# Altium schematic symbol library MainNewLib.SchLib: 99 symbols
Pins are listed as number, name and electrical type; pins without a type are passive.

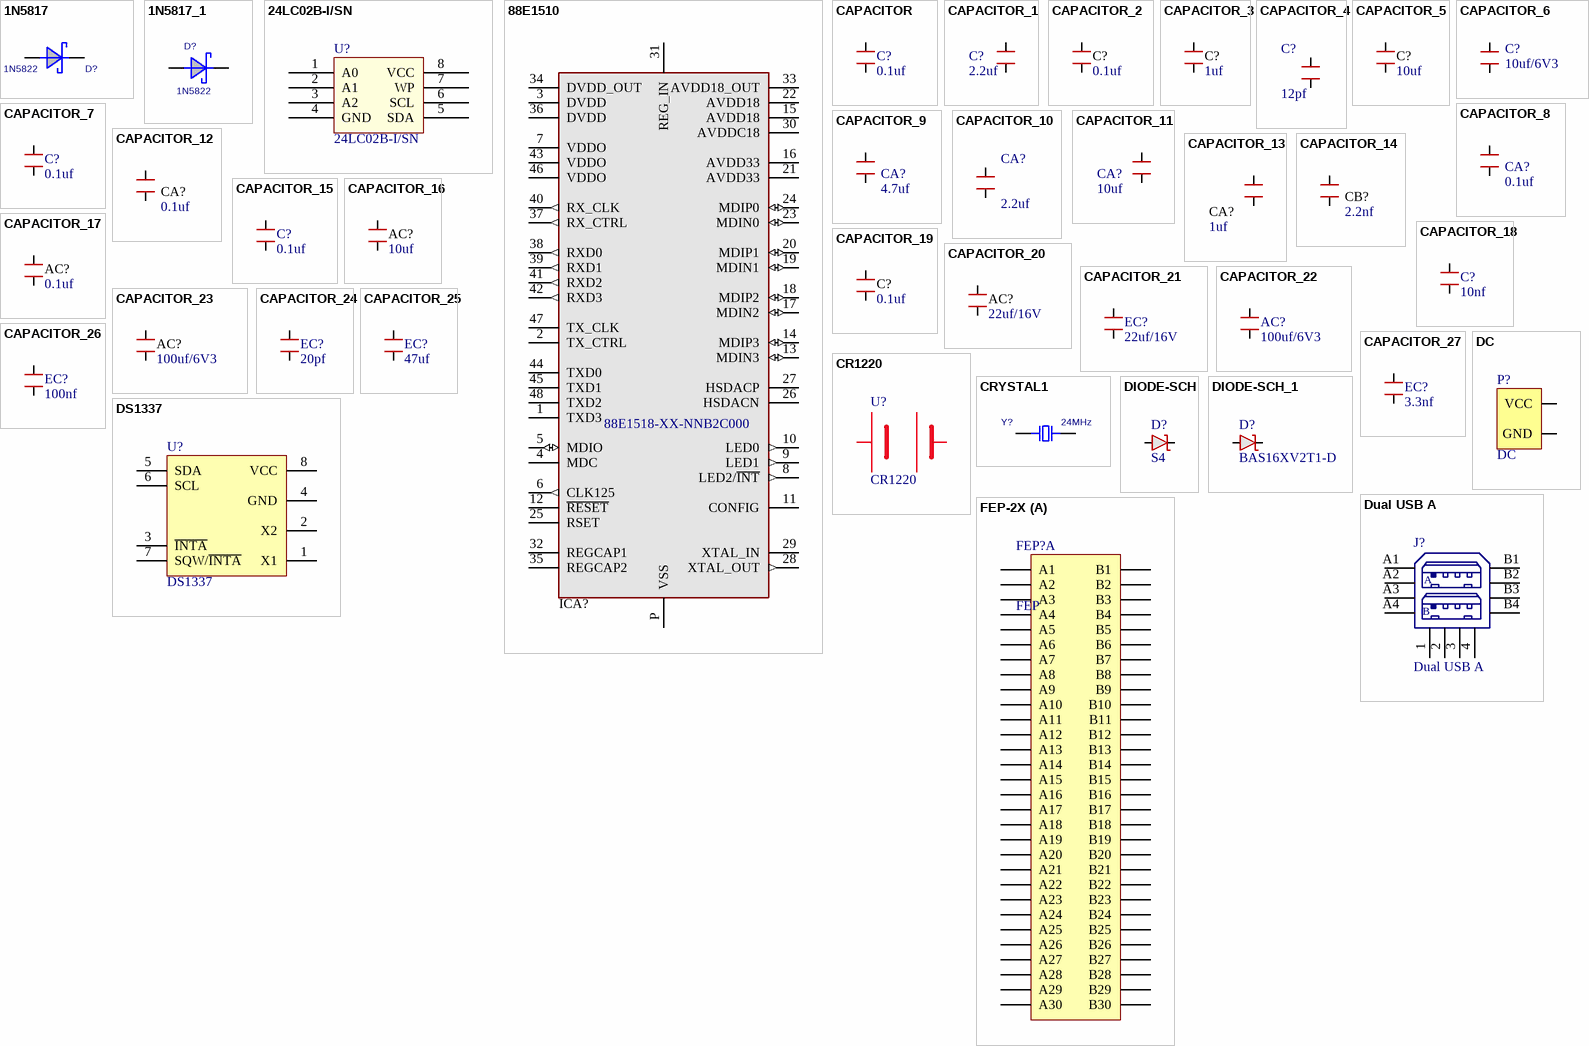
[diagram p0: symbols 1N5817 to FEP-2X]

## 1N5817
designator D?, comment 1N5822
footprint SMA_DO_214AC
footprint SMA_DO_214AC
pins: 1 A, 2 C

## 1N5817_1
designator D?, comment 1N5822
footprint SMA_DO_214AC
footprint SMA_DO_214AC
pins: 1 A, 2 C

## 24LC02B-I/SN
designator U?
footprint SOP8
pins: 1 A0, 2 A1, 3 A2, 4 GND, 5 SDA, 6 SCL, 7 WP, 8 VCC

## 88E1510
designator ICA?, comment 88E1518-XX-NNB2C000
High Integrated 10/100/1000 Ultra Gigabit Ethernet Tranceiver; Manufacturer: Marvell; DPN: *
footprint QFN48
pins: 1 TXD3, 2 TX_CTRL, 3 DVDD (power), 4 MDC, 5 MDIO (io), 6 CLK125 (out), 7 VDDO (power), 8 LED2/~{INT} (out), 9 LED1 (out), 10 LED0 (out), 11 CONFIG, 12 ~{RESET}, 13 MDIN3 (io), 14 MDIP3 (io), 15 AVDD18 (power), 16 AVDD33 (power), 17 MDIN2 (io), 18 MDIP2 (io), 19 MDIN1 (io), 20 MDIP1 (io), 21 AVDD33 (power), 22 AVDD18 (power), 23 MDIN0 (io), 24 MDIP0 (io), 25 RSET, 26 HSDACN, 27 HSDACP, 28 XTAL_OUT (out), 29 XTAL_IN, 30 AVDDC18 (power), 31 REG_IN (power), 32 REGCAP1, 33 AVDD18_OUT (power), 34 DVDD_OUT (power), 35 REGCAP2 (power), 36 DVDD (power), 37 RX_CTRL (out), 38 RXD0 (out), 39 RXD1 (out), 40 RX_CLK (out), 41 RXD2 (out), 42 RXD3 (out), 43 VDDO (power), 44 TXD0, 45 TXD1, 46 VDDO (power), 47 TX_CLK, 48 TXD2, P VSS (power)

## CAPACITOR
designator C?, comment 0.1uf
Generic Capacitor; DPN: *; Manufacturer: *
footprint CAP0402
footprint CAP0603 (Chip Capacitor, 2-Leads, Body 1.6x0.8mm, IPC High Density)
footprint CAP0805 (Chip Capacitor, 2-Leads, Body 2.0x1.3mm, IPC High Density)
footprint CAP1210 (Chip Capacitor, 2-Leads, Body 3.2x2.5mm, IPC High Density)
pins: 1, 2

## CAPACITOR_1
designator C?, comment 2.2uf
Generic Capacitor; DPN: *; Manufacturer: *
footprint CAP0402
footprint CAP0603 (Chip Capacitor, 2-Leads, Body 1.6x0.8mm, IPC High Density)
footprint CAP0805 (Chip Capacitor, 2-Leads, Body 2.0x1.3mm, IPC High Density)
footprint CAP1210 (Chip Capacitor, 2-Leads, Body 3.2x2.5mm, IPC High Density)
pins: 1, 2

## CAPACITOR_2
designator C?, comment 0.1uf
Generic Capacitor; Value: 10nF; DPN: *; Manufacturer: *
footprint CAP0402 (Chip Capacitor, 2-Leads, Body 1.0x0.5mm, IPC High Density)
footprint CAP0603 (Chip Capacitor, 2-Leads, Body 1.6x0.8mm, IPC High Density)
footprint CAP0805 (Chip Capacitor, 2-Leads, Body 2.0x1.3mm, IPC High Density)
footprint CAP1210 (Chip Capacitor, 2-Leads, Body 3.2x2.5mm, IPC High Density)
pins: 1, 2

## CAPACITOR_3
designator C?, comment 1uf
Generic Capacitor; Value: 10nF; DPN: *; Manufacturer: *
footprint CAP0402 (Chip Capacitor, 2-Leads, Body 1.0x0.5mm, IPC High Density)
footprint CAP0603 (Chip Capacitor, 2-Leads, Body 1.6x0.8mm, IPC High Density)
footprint CAP0805 (Chip Capacitor, 2-Leads, Body 2.0x1.3mm, IPC High Density)
footprint CAP1210 (Chip Capacitor, 2-Leads, Body 3.2x2.5mm, IPC High Density)
pins: 1, 2

## CAPACITOR_4
designator C?, comment 12pf
Generic Capacitor; Value: 39pF; DPN: *; Manufacturer: *
footprint CAP0402 (Chip Capacitor, 2-Leads, Body 1.0x0.5mm, IPC High Density)
footprint CAP0603 (Chip Capacitor, 2-Leads, Body 1.6x0.8mm, IPC High Density)
footprint CAP0805 (Chip Capacitor, 2-Leads, Body 2.0x1.3mm, IPC High Density)
footprint CAP1210 (Chip Capacitor, 2-Leads, Body 3.2x2.5mm, IPC High Density)
pins: 1, 2

## CAPACITOR_5
designator C?, comment 10uf
Generic Capacitor; Value: 10nF; DPN: *; Manufacturer: *
footprint CAP0603
pins: 1, 2

## CAPACITOR_6
designator C?, comment 10uf/6V3
Generic Capacitor; Value: 4.7uF; DPN: *; Manufacturer: *
footprint CAP0402 (Chip Capacitor, 2-Leads, Body 1.0x0.5mm, IPC High Density)
footprint CAP0603
footprint CAP0805 (Chip Capacitor, 2-Leads, Body 2.0x1.3mm, IPC High Density)
footprint CAP1210 (Chip Capacitor, 2-Leads, Body 3.2x2.5mm, IPC High Density)
pins: 1, 2

## CAPACITOR_7
designator C?, comment 0.1uf
Generic Capacitor; DPN: *; Manufacturer: *
footprint CAP0402
footprint CAP0603 (Chip Capacitor, 2-Leads, Body 1.6x0.8mm, IPC High Density)
footprint CAP0805 (Chip Capacitor, 2-Leads, Body 2.0x1.3mm, IPC High Density)
footprint CAP1210 (Chip Capacitor, 2-Leads, Body 3.2x2.5mm, IPC High Density)
pins: 1, 2

## CAPACITOR_8
designator CA?, comment 0.1uf
Generic Capacitor; DPN: *; Manufacturer: *; Value: 0.1uF
footprint CAP0402
footprint CAP0603 (Chip Capacitor, 2-Leads, Body 1.6x0.8mm, IPC High Density)
footprint CAP0805 (Chip Capacitor, 2-Leads, Body 2.0x1.3mm, IPC High Density)
footprint CAP1210 (Chip Capacitor, 2-Leads, Body 3.2x2.5mm, IPC High Density)
pins: 1, 2

## CAPACITOR_9
designator CA?, comment 4.7uf
Generic Capacitor; DPN: *; Manufacturer: *; Value: 4.7uF
footprint CAP0402
footprint CAP0603
footprint CAP0805 (Chip Capacitor, 2-Leads, Body 2.0x1.3mm, IPC High Density)
footprint CAP1210 (Chip Capacitor, 2-Leads, Body 3.2x2.5mm, IPC High Density)
pins: 1, 2

## CAPACITOR_10
designator CA?, comment 2.2uf
Generic Capacitor; Value: 4.7uF; DPN: *; Manufacturer: *
footprint CAP0402 (Chip Capacitor, 2-Leads, Body 1.0x0.5mm, IPC High Density)
footprint CAP0402
footprint CAP0805 (Chip Capacitor, 2-Leads, Body 2.0x1.3mm, IPC High Density)
footprint CAP1210 (Chip Capacitor, 2-Leads, Body 3.2x2.5mm, IPC High Density)
pins: 1, 2

## CAPACITOR_11
designator CA?, comment 10uf
Generic Capacitor; DPN: *; Manufacturer: *; Value: 10uF
footprint CAP0402 (Chip Capacitor, 2-Leads, Body 1.0x0.5mm, IPC High Density)
footprint CAP0603 (Chip Capacitor, 2-Leads, Body 1.6x0.8mm, IPC High Density)
footprint CAP0402
footprint CAP1210 (Chip Capacitor, 2-Leads, Body 3.2x2.5mm, IPC High Density)
pins: 1, 2

## CAPACITOR_12
designator CA?, comment 0.1uf
Generic Capacitor; Value: 10nF; DPN: *; Manufacturer: *
footprint CAP0402
footprint CAP0603 (Chip Capacitor, 2-Leads, Body 1.6x0.8mm, IPC High Density)
footprint CAP0805 (Chip Capacitor, 2-Leads, Body 2.0x1.3mm, IPC High Density)
footprint CAP1210 (Chip Capacitor, 2-Leads, Body 3.2x2.5mm, IPC High Density)
pins: 1, 2

## CAPACITOR_13
designator CA?, comment 1uf
Generic Capacitor; Value: 10nF; DPN: *; Manufacturer: *
footprint CAP0402
footprint CAP0603 (Chip Capacitor, 2-Leads, Body 1.6x0.8mm, IPC High Density)
footprint CAP0805 (Chip Capacitor, 2-Leads, Body 2.0x1.3mm, IPC High Density)
footprint CAP1210 (Chip Capacitor, 2-Leads, Body 3.2x2.5mm, IPC High Density)
pins: 1, 2

## CAPACITOR_14
designator CB?, comment 2.2nf
Generic Capacitor; Value: 10nF; DPN: *; Manufacturer: *
footprint CAP0402
footprint CAP0603 (Chip Capacitor, 2-Leads, Body 1.6x0.8mm, IPC High Density)
footprint CAP0805 (Chip Capacitor, 2-Leads, Body 2.0x1.3mm, IPC High Density)
footprint CAP1210 (Chip Capacitor, 2-Leads, Body 3.2x2.5mm, IPC High Density)
pins: 1, 2

## CAPACITOR_15
designator C?, comment 0.1uf
Generic Capacitor; DPN: *; Manufacturer: *
footprint CAP0402
footprint CAP0603 (Chip Capacitor, 2-Leads, Body 1.6x0.8mm, IPC High Density)
footprint CAP0805 (Chip Capacitor, 2-Leads, Body 2.0x1.3mm, IPC High Density)
footprint CAP1210 (Chip Capacitor, 2-Leads, Body 3.2x2.5mm, IPC High Density)
pins: 1, 2

## CAPACITOR_16
designator AC?, comment 10uf
Generic Capacitor; Value: 10nF; DPN: *; Manufacturer: *
footprint 0402C
footprint CAP0603
footprint CAP0805 (Chip Capacitor, 2-Leads, Body 2.0x1.3mm, IPC High Density)
footprint CAP1210 (Chip Capacitor, 2-Leads, Body 3.2x2.5mm, IPC High Density)
pins: 1, 2

## CAPACITOR_17
designator AC?, comment 0.1uf
Generic Capacitor; Value: 10nF; DPN: *; Manufacturer: *
footprint CAP0402
footprint CAP0603 (Chip Capacitor, 2-Leads, Body 1.6x0.8mm, IPC High Density)
footprint CAP0805 (Chip Capacitor, 2-Leads, Body 2.0x1.3mm, IPC High Density)
footprint CAP1210 (Chip Capacitor, 2-Leads, Body 3.2x2.5mm, IPC High Density)
pins: 1, 2

## CAPACITOR_18
designator C?, comment 10nf
Generic Capacitor; Value: 0.1uF; DPN: *; Manufacturer: *
footprint CAP0402
footprint CAP0603 (Chip Capacitor, 2-Leads, Body 1.6x0.8mm, IPC High Density)
footprint CAP0805 (Chip Capacitor, 2-Leads, Body 2.0x1.3mm, IPC High Density)
footprint CAP1210 (Chip Capacitor, 2-Leads, Body 3.2x2.5mm, IPC High Density)
pins: 1, 2

## CAPACITOR_19
designator C?, comment 0.1uf
Generic Capacitor; Value: 10nF; DPN: *; Manufacturer: *
footprint CAP0402
footprint CAP0603 (Chip Capacitor, 2-Leads, Body 1.6x0.8mm, IPC High Density)
footprint CAP0805 (Chip Capacitor, 2-Leads, Body 2.0x1.3mm, IPC High Density)
footprint CAP1210 (Chip Capacitor, 2-Leads, Body 3.2x2.5mm, IPC High Density)
pins: 1, 2

## CAPACITOR_20
designator AC?, comment 22uf/16V
Generic Capacitor; Value: 10nF; DPN: *; Manufacturer: *
footprint 0402C
footprint CAP1206
footprint CAP0805 (Chip Capacitor, 2-Leads, Body 2.0x1.3mm, IPC High Density)
footprint CAP1210 (Chip Capacitor, 2-Leads, Body 3.2x2.5mm, IPC High Density)
pins: 1, 2

## CAPACITOR_21
designator EC?, comment 22uf/16V
Generic Capacitor; DPN: *; Manufacturer: *
footprint CAP0402
footprint CAP1206 (Footprint not found)
footprint CAP0603
footprint CAP1210 (Chip Capacitor, 2-Leads, Body 3.2x2.5mm, IPC High Density)
pins: 1, 2

## CAPACITOR_22
designator AC?, comment 100uf/6V3
Generic Capacitor; DPN: *; Manufacturer: *
footprint CAP0402
footprint CAP1206 (Footprint not found)
footprint CAP1206 (Footprint not found)
footprint CAP1210 (Chip Capacitor, 2-Leads, Body 3.2x2.5mm, IPC High Density)
pins: 1, 2

## CAPACITOR_23
designator AC?, comment 100uf/6V3
Generic Capacitor; Value: 10nF; DPN: *; Manufacturer: *
footprint 0402C
footprint CAP1206 (Footprint not found)
footprint CAP0805 (Chip Capacitor, 2-Leads, Body 2.0x1.3mm, IPC High Density)
footprint CAP1210 (Chip Capacitor, 2-Leads, Body 3.2x2.5mm, IPC High Density)
pins: 1, 2

## CAPACITOR_24
designator EC?, comment 20pf
Generic Capacitor; DPN: *; Manufacturer: *
footprint CAP0402
footprint CAP0603 (Chip Capacitor, 2-Leads, Body 1.6x0.8mm, IPC High Density)
footprint CAP1206 (Footprint not found)
footprint CAP1210 (Chip Capacitor, 2-Leads, Body 3.2x2.5mm, IPC High Density)
pins: 1, 2

## CAPACITOR_25
designator EC?, comment 47uf
Generic Capacitor; DPN: *; Manufacturer: *
footprint CAP0402
footprint CAP0603
footprint CAP1206 (Footprint not found)
footprint CAP1210 (Chip Capacitor, 2-Leads, Body 3.2x2.5mm, IPC High Density)
pins: 1, 2

## CAPACITOR_26
designator EC?, comment 100nf
Generic Capacitor; DPN: *; Manufacturer: *
footprint CAP0402
footprint CAP0402
footprint CAP1206 (Footprint not found)
footprint CAP1210 (Chip Capacitor, 2-Leads, Body 3.2x2.5mm, IPC High Density)
pins: 1, 2

## CAPACITOR_27
designator EC?, comment 3.3nf
Generic Capacitor; DPN: *; Manufacturer: *
footprint CAP0402
footprint CAP0603 (Chip Capacitor, 2-Leads, Body 1.6x0.8mm, IPC High Density)
footprint CAP1206 (Footprint not found)
footprint CAP1210 (Chip Capacitor, 2-Leads, Body 3.2x2.5mm, IPC High Density)
pins: 1, 2

## CR1220
designator U?
footprint R190
pins: 1, 2

## CRYSTAL1
designator Y?, comment 24MHz
footprint CRY5032_2
pins: 1, 2

## DC
designator P?
footprint DC2.5
footprint DC5.0
footprint DC031A
pins: 1 VCC, 2 GND

## DIODE-SCH
designator D?, comment S4
Schotkey Diode NOT GENERIC; DPN: *; Manufacturer: *
footprint SOD-323
footprint SMC (SMC (DO-214AB), 2-Leads, Body 7.9x5.9mm, (Vishay))
footprint SMA (SMA, 2-leads, Body 5x3mm)
footprint SOD-523
pins: A, K

## DIODE-SCH_1
designator D?, comment BAS16XV2T1-D
Surface Mount ESD Protection Diode; Manufacturer: On Semiconductor; DPN: *
footprint SOD-323
footprint SMC (SMC (DO-214AB), 2-Leads, Body 7.9x5.9mm, (Vishay))
footprint SMA (SMA, 2-leads, Body 5x3mm)
footprint SOD-523
pins: A, K

## DS1337
designator U?
footprint SOP8
pins: 1 X1, 2 X2, 3 ~{INTA}, 4 GND, 5 SDA, 6 SCL, 7 SQW/~{INTA}, 8 VCC

## Dual USB A
designator J?
footprint USBAX2
pins: 1, 2, 3, 4, A1, A2, A3, A4, B1, B2, B3, B4
text: A; B

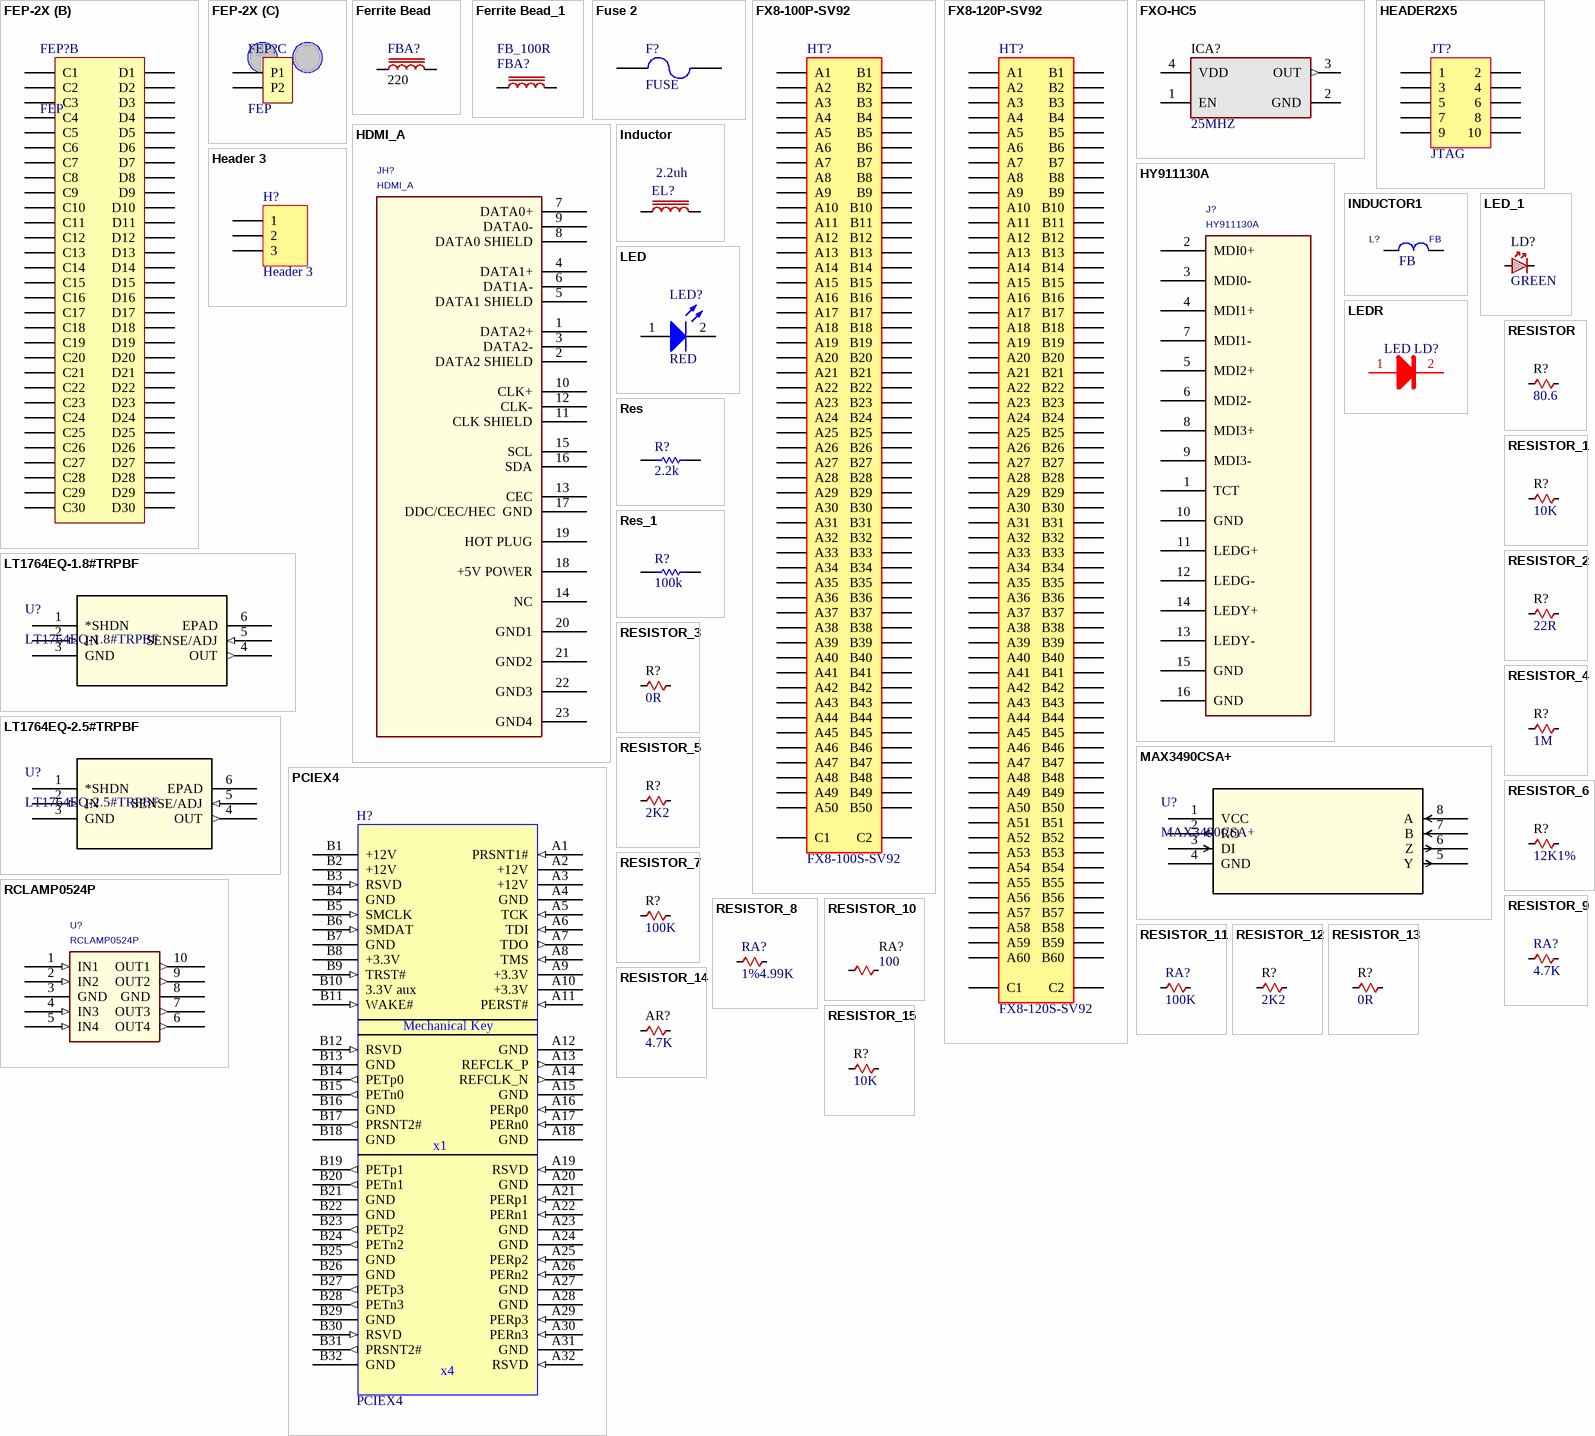
[diagram p1: symbols FEP-2X to RESISTOR_15]

## FEP-2X
designator FEP?, comment FEP
footprint FEP-X2
part A pins: A1, A2, A3, A4, A5, A6, A7, A8, A9, A10, A11, A12, A13, A14, A15, A16, A17, A18, A19, A20, A21, A22, A23, A24, A25, A26, A27, A28, A29, A30, B1, B2, B3, B4, B5, B6, B7, B8, B9, B10, B11, B12, B13, B14, B15, B16, B17, B18, B19, B20, B21, B22, B23, B24, B25, B26, B27, B28, B29, B30
part B pins: C1, C2, C3, C4, C5, C6, C7, C8, C9, C10, C11, C12, C13, C14, C15, C16, C17, C18, C19, C20, C21, C22, C23, C24, C25, C26, C27, C28, C29, C30, D1, D2, D3, D4, D5, D6, D7, D8, D9, D10, D11, D12, D13, D14, D15, D16, D17, D18, D19, D20, D21, D22, D23, D24, D25, D26, D27, D28, D29, D30
part C pins: P1, P2

## Ferrite Bead
designator FBA?, comment 220
Generic Ferrite Bead; DPN: *; Manufacturer: *; Value: 220
footprint CAP0603
footprint FB0402 (Ferrite Bead, 2-Leads, Body 1.0x0.5mm, IPC High Density)
pins: 1, 2

## Ferrite Bead_1
designator FBA?, comment FB_100R
Generic Ferrite Bead; Value: 600; DPN: *; Manufacturer: *
footprint CAP0603
pins: 1, 2

## Fuse 2
designator F?, comment FUSE
Published: 8-Jun-2000; LatestRevisionDate: 17-Jul-2002; LatestRevisionNote: Re-released for DXP Platform.; PackageReference: PIN-W2/E2.8; Publisher: Altium Limited
footprint 1206
simulation model FUSE (Spice Subcircuit)
pins: 1, 2

## FX8-100P-SV92
designator HT?, comment FX8-100S-SV92
footprint FX8-100S-SV92
pins: A1, A2, A3, A4, A5, A6, A7, A8, A9, A10, A11, A12, A13, A14, A15, A16, A17, A18, A19, A20, A21, A22, A23, A24, A25, A26, A27, A28, A29, A30, A31, A32, A33, A34, A35, A36, A37, A38, A39, A40, A41, A42, A43, A44, A45, A46, A47, A48, A49, A50, B1, B2, B3, B4, B5, B6, B7, B8, B9, B10, B11, B12, B13, B14, B15, B16, B17, B18, B19, B20, B21, B22, B23, B24, B25, B26, B27, B28, B29, B30, B31, B32, B33, B34, B35, B36, B37, B38, B39, B40, B41, B42, B43, B44, B45, B46, B47, B48, B49, B50, C1, C2

## FX8-120P-SV92
designator HT?, comment FX8-120S-SV92
footprint FX8-120S-SV92
pins: A1, A2, A3, A4, A5, A6, A7, A8, A9, A10, A11, A12, A13, A14, A15, A16, A17, A18, A19, A20, A21, A22, A23, A24, A25, A26, A27, A28, A29, A30, A31, A32, A33, A34, A35, A36, A37, A38, A39, A40, A41, A42, A43, A44, A45, A46, A47, A48, A49, A50, A51, A52, A53, A54, A55, A56, A57, A58, A59, A60, B1, B2, B3, B4, B5, B6, B7, B8, B9, B10, B11, B12, B13, B14, B15, B16, B17, B18, B19, B20, B21, B22, B23, B24, B25, B26, B27, B28, B29, B30, B31, B32, B33, B34, B35, B36, B37, B38, B39, B40, B41, B42, B43, B44, B45, B46, B47, B48, B49, B50, B51, B52, B53, B54, B55, B56, B57, B58, B59, B60, C1, C2

## FXO-HC5
designator ICA?, comment 25MHZ
3.3V HCMOS Oscillator; Manufacturer: Fox Electronics; Value: 33.33MHz; DPN: *
footprint 3225 (Footprint not found)
pins: 1 EN, 2 GND (power), 3 OUT (out), 4 VDD (power)

## HDMI_A
designator JH?
footprint HDMI_1903015
footprint HDMI_SMD_A
pins: 1 DATA2+, 2 DATA2 SHIELD, 3 DATA2-, 4 DATA1+, 5 DATA1 SHIELD, 6 DAT1A-, 7 DATA0+, 8 DATA0 SHIELD, 9 DATA0-, 10 CLK+, 11 CLK SHIELD, 12 CLK-, 13 CEC, 14 NC, 15 SCL, 16 SDA, 17 DDC/CEC/HEC  GND, 18 +5V POWER, 19 HOT PLUG, 20 GND1, 21 GND2, 22 GND3, 23 GND4

## HEADER2X5
designator JT?, comment JTAG
footprint HEADER2X5X2.5
footprint HEADER5X2X2.0T
footprint HEADER2X5-2.0
pins: 1, 2, 3, 4, 5, 6, 7, 8, 9, 10

## Header 3
designator H?
Header, 3-Pin; LatestRevisionDate: 17-Jul-2002; LatestRevisionNote: Re-released for DXP Platform.; Publisher: Altium Limited
footprint HDR1X3 (Connector; Header; 3 Position)
signal-integrity model Connector
footprint CON3
footprint HD3
footprint KF7.62-3
pins: 1, 2, 3

## HY911130A
designator J?
footprint HY911130A
pins: 1 TCT, 2 MDI0+, 3 MDI0-, 4 MDI1+, 5 MDI2+, 6 MDI2-, 7 MDI1-, 8 MDI3+, 9 MDI3-, 10 GND (power), 11 LEDG+, 12 LEDG-, 13 LEDY-, 14 LEDY+, 15 GND (power), 16 GND (power)

## Inductor
designator EL?, comment 2.2uh
Generic Inductor; DPN: *; Manufacturer: *
footprint L4X4X2 (Footprint not found)
footprint CR43 (CR series Power Inductor SMT 4.5x5mm (Sumida))
footprint NP04SZ (NP04SZ series Power Inductor SMT 5x5mm (Taiyo Yuden))
footprint IND1210 (Chip Inductor, 2-Leads, Body 3.2x2.5mm)
footprint IND0402 (Chip Inductor 2-Leads, Body 1.0x0.5mm, IPC High Density)
footprint MSS1048 (Power Inductor SMT 10x10.2mm (Coilcraft)
footprint IND0603 (Chip Inductor, 2-Leads, Body 1.6x0.8mm, IPC High Density)
footprint NRS5012 (NRS5012 series Power Inductor SMT 5x5mm (Taiyo Yuden))
footprint SDR0302 (SDR0302 series Power Inductor SMT 3x3mm (Bourns))
footprint L4X4X2 (Footprint not found)
footprint SD5012D (SDS5012D Inductor Package, 5.3x5.2mm (Coilcraft))
pins: 1, 2

## INDUCTOR1
designator L?, comment FB
DIST: FLAT; PSpiceTemplate: L^@REFDES %1 %2 ?TOLERANCE|L^@REFDES| @VALUE ?IC/IC=@IC/ ?TOLERANCE|\n.model l^@REFDES IND L=1 DEV=@TOLERANCE% TC1=@TC1 TC2=@TC2 IL1=@IL1 IL2=@IL2|; CURRENT: LMAX; DIELECTRIC: DSMAX; IL1: 0; IL2: 0; TC1: 0; TC2: 0; Value: FB
footprint CAP0603
simulation model INDUCTOR1
footprint L0603
pins: 1, 2

## LED
designator LED?, comment RED
SMD
footprint 0603D
pins: 1 A, 2 K

## LED_1
designator LD?, comment value GREEN  (hidden comment: LED)
Generic LED; Manufacturer: *; DPN: *
footprint D0603
pins: A, K

## LEDR
designator LD?, comment LED
footprint 0603D
footprint LED-M
pins: 1, 2

## LT1764EQ-1.8#TRPBF
designator U?
No Description Available; Vendor: Linear Technology; Manufacturer_Part_Number: lt1764eq-1.8#trpbf; Copyright: Copyright (C) 2018 Accelerated Designs. All rights reserved; RefDes: RefDes; Type: DEV
footprint DDPAK-5_Q
pins: 1 *SHDN, 2 IN (in), 3 GND (power), 4 OUT (out), 5 SENSE/ADJ (in), 6 EPAD

## LT1764EQ-2.5#TRPBF
designator U?
No Description Available; Vendor: Linear Technology; Manufacturer_Part_Number: lt1764eq-2.5#trpbf; Copyright: Copyright (C) 2018 Accelerated Designs. All rights reserved; RefDes: RefDes; Type: DEV
footprint DDPAK-5_Q
pins: 1 *SHDN, 2 IN (in), 3 GND (power), 4 OUT (out), 5 SENSE/ADJ (in), 6 EPAD

## MAX3490CSA+
designator U?
No Description Available; Vendor: Maxim Integrated Products; Built_By: EMA_UL_Team; SourceLibrary: Maxim_2011-10-27; Manufacturer_Part_Number: MAX3490CSA+; Revision: 3; Copyright: Copyright (C) 2018 Accelerated Designs. All rights reserved; RefDes: RefDes; Type: DEV
footprint 21-0041B_8_MXM
pins: 1 VCC (power), 2 RO, 3 DI, 4 GND (power), 5 Y, 6 Z, 7 B, 8 A

## PCIEX4
designator H?
footprint PCIEX4
pins: A1 PRSNT1# (in), A2 +12V (power), A3 +12V (power), A4 GND (power), A5 TCK (in), A6 TDI (in), A7 TDO (out), A8 TMS (in), A9 +3.3V (power), A10 +3.3V (power), A11 PERST# (in), A12 GND (power), A13 REFCLK_P (out), A14 REFCLK_N (out), A15 GND (power), A16 PERp0 (in), A17 PERn0 (in), A18 GND (power), A19 RSVD (in), A20 GND (power), A21 PERp1 (in), A22 PERn1 (in), A23 GND (power), A24 GND (power), A25 PERp2 (in), A26 PERn2 (in), A27 GND (power), A28 GND (power), A29 PERp3 (in), A30 PERn3 (in), A31 GND (power), A32 RSVD (in), B1 +12V (power), B2 +12V (power), B3 RSVD (in), B4 GND (power), B5 SMCLK (in), B6 SMDAT (in), B7 GND (power), B8 +3.3V (power), B9 TRST# (in), B10 3.3V aux (power), B11 WAKE# (in), B12 RSVD (in), B13 GND (power), B14 PETp0 (out), B15 PETn0 (out), B16 GND (power), B17 PRSNT2# (out), B18 GND (power), B19 PETp1 (out), B20 PETn1 (out), B21 GND (power), B22 GND (power), B23 PETp2 (out), B24 PETn2 (out), B25 GND (power), B26 GND (power), B27 PETp3 (out), B28 PETn3 (out), B29 GND (power), B30 RSVD (in), B31 PRSNT2# (out), B32 GND (power)
text: Mechanical Key; x1; x4

## RCLAMP0524P
designator U?
footprint SLP2510P8_10
pins: 1 IN1 (in), 2 IN2 (in), 3 GND (power), 4 IN3 (in), 5 IN4 (in), 6 OUT4 (out), 7 OUT3 (out), 8 GND (power), 9 OUT2 (out), 10 OUT1 (out)

## Res
designator R?, comment 2.2k
1K
footprint RES0402
footprint 0603
footprint 0805
footprint 1206R
pins: 1, 2

## Res_1
designator R?, comment 100k
1K
footprint RES0402
footprint 0603
footprint 0805
footprint 1206R
pins: 1, 2

## RESISTOR
designator R?, comment 80.6
Generic Resistor; Value: 10K; Manufacturer: *; DPN: *
footprint RES0402
footprint RES0805 (Resistor, 2-Leads, Body 2.0x1.3mm, IPC High Density)
pins: 1, 2

## RESISTOR_1
designator R?, comment 10K
Generic Resistor; Value: 100; Manufacturer: *; DPN: *
footprint RES0402
footprint RES0805 (Resistor, 2-Leads, Body 2.0x1.3mm, IPC High Density)
pins: 1, 2

## RESISTOR_2
designator R?, comment 22R
Generic Resistor; Value: 100; Manufacturer: *; DPN: *
footprint RES0402
footprint RES0805 (Resistor, 2-Leads, Body 2.0x1.3mm, IPC High Density)
pins: 1, 2

## RESISTOR_3
designator R?, comment 0R
Generic Resistor; Value: 100; Manufacturer: *; DPN: *
footprint RES0402
footprint RES0805 (Resistor, 2-Leads, Body 2.0x1.3mm, IPC High Density)
pins: 1, 2

## RESISTOR_4
designator R?, comment 1M
Generic Resistor; Value: 100; Manufacturer: *; DPN: *
footprint RES0402
footprint RES0805 (Resistor, 2-Leads, Body 2.0x1.3mm, IPC High Density)
pins: 1, 2

## RESISTOR_5
designator R?, comment 2K2
Generic Resistor; Value: 100; Manufacturer: *; DPN: *
footprint RES0402
footprint RES0805
pins: 1, 2

## RESISTOR_6
designator R?, comment 12K1%
Generic Resistor; Value: 100; Manufacturer: *; DPN: *
footprint RES0402
footprint RES0805 (Resistor, 2-Leads, Body 2.0x1.3mm, IPC High Density)
pins: 1, 2

## RESISTOR_7
designator R?, comment 100K
Generic Resistor; Value: 100; Manufacturer: *; DPN: *
footprint RES0402
footprint RES0805 (Resistor, 2-Leads, Body 2.0x1.3mm, IPC High Density)
pins: 1, 2

## RESISTOR_8
designator RA?, comment 1%4.99K
Generic Resistor; Value: 4.99K; Manufacturer: *; DPN: *
footprint RES0402
footprint RES0805 (Resistor, 2-Leads, Body 2.0x1.3mm, IPC High Density)
pins: 1, 2

## RESISTOR_9
designator RA?, comment 4.7K
Generic Resistor; Manufacturer: *; DPN: *; Value: 4.7K
footprint RES0402
footprint RES0805 (Resistor, 2-Leads, Body 2.0x1.3mm, IPC High Density)
pins: 1, 2

## RESISTOR_10
designator RA?, comment 100
Generic Resistor; Value: 55; Manufacturer: *; DPN: *
footprint RES0402
footprint RES0805 (Resistor, 2-Leads, Body 2.0x1.3mm, IPC High Density)
pins: 1, 2

## RESISTOR_11
designator RA?, comment 100K
Generic Resistor; Manufacturer: *; DPN: *; Value: 100K
footprint RES0402
footprint RES0805 (Resistor, 2-Leads, Body 2.0x1.3mm, IPC High Density)
pins: 1, 2

## RESISTOR_12
designator R?, comment 2K2
Generic Resistor; Value: 10R; Manufacturer: *; DPN: *
footprint RES0402
footprint RES0805 (Resistor, 2-Leads, Body 2.0x1.3mm, IPC High Density)
pins: 1, 2

## RESISTOR_13
designator R?, comment 0R
Generic Resistor; Value: 10R; Manufacturer: *; DPN: *
footprint RES0402
footprint RES0805 (Resistor, 2-Leads, Body 2.0x1.3mm, IPC High Density)
pins: 1, 2

## RESISTOR_14
designator AR?, comment 4.7K
Generic Resistor; Value: 100; Manufacturer: *; DPN: *
footprint RES0402
footprint RES0805 (Resistor, 2-Leads, Body 2.0x1.3mm, IPC High Density)
pins: 1, 2

## RESISTOR_15
designator R?, comment 10K
Generic Resistor; Value: 4.7K; Manufacturer: *; DPN: *
footprint RES0402
footprint RES0805 (Resistor, 2-Leads, Body 2.0x1.3mm, IPC High Density)
pins: 1, 2

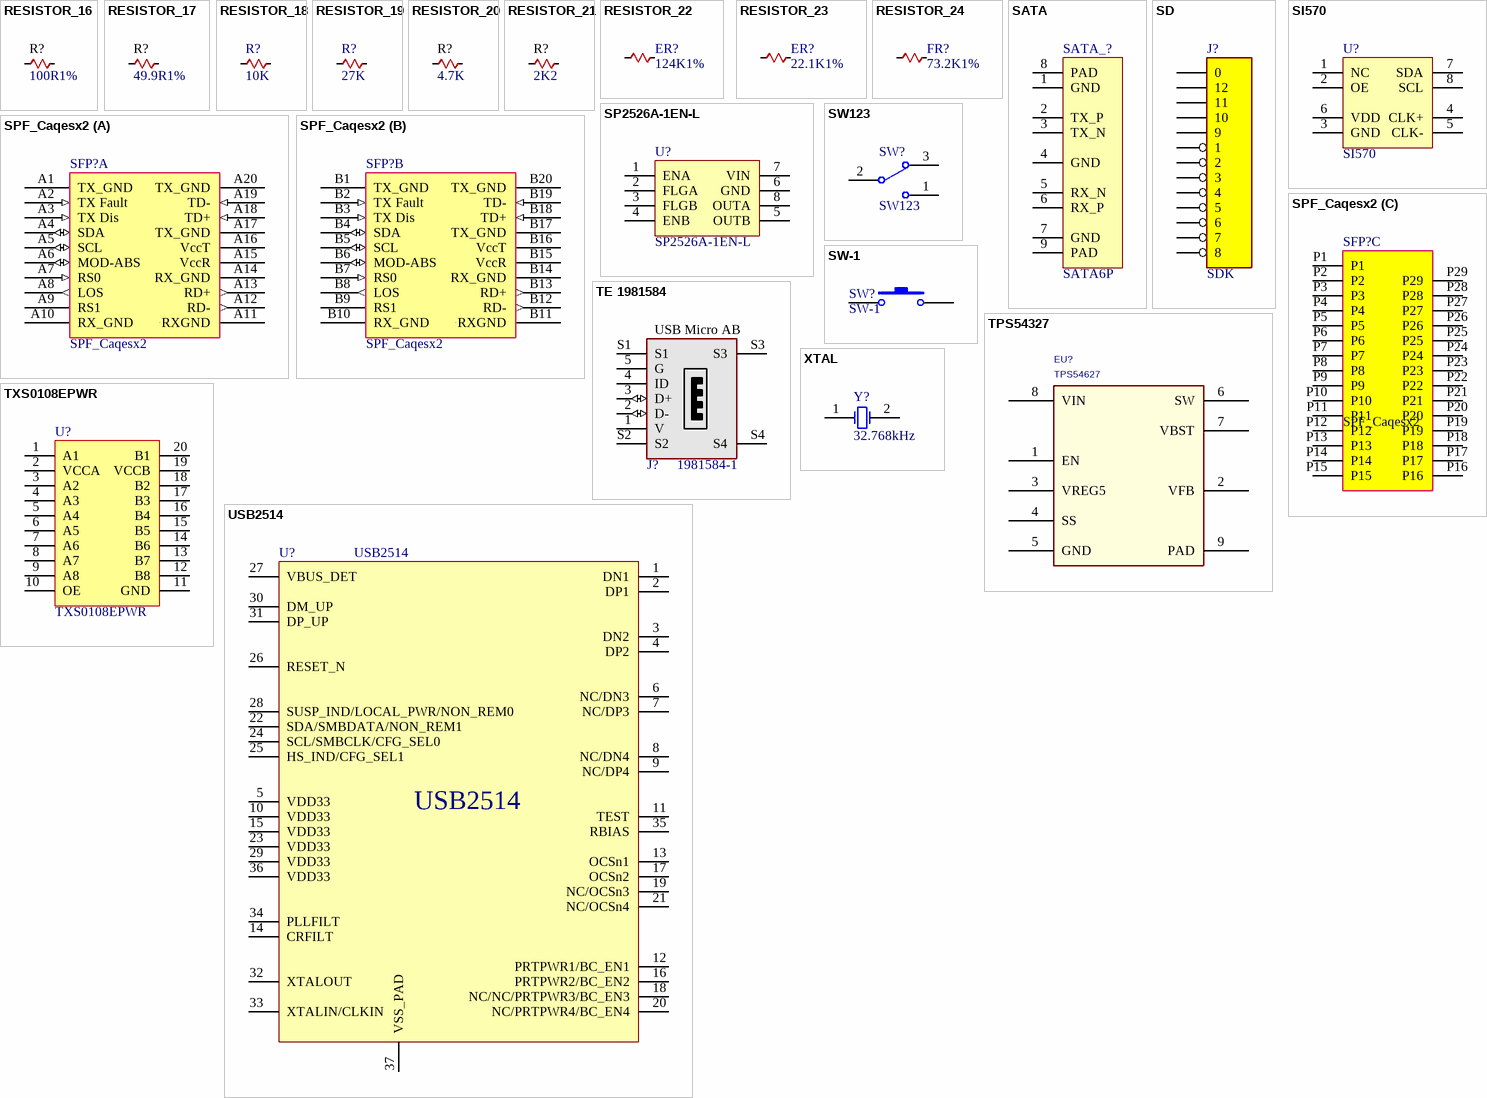
[diagram p2: symbols RESISTOR_16 to XTAL]

## RESISTOR_16
designator R?, comment 100R1%
Generic Resistor; Value: 4.7K; Manufacturer: *; DPN: *
footprint RES0402
footprint RES0805 (Resistor, 2-Leads, Body 2.0x1.3mm, IPC High Density)
pins: 1, 2

## RESISTOR_17
designator R?, comment 49.9R1%
Generic Resistor; Value: 10R; Manufacturer: *; DPN: *
footprint RES0402
footprint RES0805 (Resistor, 2-Leads, Body 2.0x1.3mm, IPC High Density)
pins: 1, 2

## RESISTOR_18
designator R?, comment 10K
Generic Resistor; Value: 1.74K; Manufacturer: *; DPN: *
footprint RES0402
footprint RES0805 (Resistor, 2-Leads, Body 2.0x1.3mm, IPC High Density)
footprint RES-SM2 (Chip Resistor, 2-Leads, Body 10.4x6.1mm, (SEI))
footprint RES2512 (Chip Resistor, 2-Leads, Body 6.4x3.2mm, (Panasonic))
pins: 1, 2

## RESISTOR_19
designator R?, comment 27K
Generic Resistor; Manufacturer: *; DPN: *; Value: 27K
footprint RES0402
footprint RES0805 (Resistor, 2-Leads, Body 2.0x1.3mm, IPC High Density)
footprint RES-SM2 (Chip Resistor, 2-Leads, Body 10.4x6.1mm, (SEI))
footprint RES2512 (Chip Resistor, 2-Leads, Body 6.4x3.2mm, (Panasonic))
pins: 1, 2

## RESISTOR_20
designator R?, comment 4.7K
Generic Resistor; Value: 100; Manufacturer: *; DPN: *
footprint RES0402
footprint RES0805 (Resistor, 2-Leads, Body 2.0x1.3mm, IPC High Density)
pins: 1, 2

## RESISTOR_21
designator R?, comment 2K2
Generic Resistor; Value: 390; Manufacturer: *; DPN: *
footprint RES0402
footprint RES0805 (Resistor, 2-Leads, Body 2.0x1.3mm, IPC High Density)
pins: 1, 2

## RESISTOR_22
designator ER?, comment 124K1%
Generic Resistor; Value: 4.7K; Manufacturer: *; DPN: *
footprint CAP0603
footprint RES0805 (Resistor, 2-Leads, Body 2.0x1.3mm, IPC High Density)
pins: 1, 2

## RESISTOR_23
designator ER?, comment 22.1K1%
Generic Resistor; Value: 4.7K; Manufacturer: *; DPN: *
footprint CAP0603
footprint RES0805 (Resistor, 2-Leads, Body 2.0x1.3mm, IPC High Density)
pins: 1, 2

## RESISTOR_24
designator FR?, comment 73.2K1%
Generic Resistor; Value: 4.7K; Manufacturer: *; DPN: *
footprint CAP0603
footprint RES0805 (Resistor, 2-Leads, Body 2.0x1.3mm, IPC High Density)
pins: 1, 2

## SATA
designator SATA_?, comment SATA6P
footprint SATA-678005011 (Footprint not found)
pins: 1 GND, 2 TX_P, 3 TX_N, 4 GND, 5 RX_N, 6 RX_P, 7 GND, 8 PAD, 9 PAD

## SD
designator J?, comment SDK
footprint SDKA-X
footprint TF_K
pins: 0, 1, 2, 3, 4, 5, 6, 7, 8, 9, 10, 11, 12

## SI570
designator U?
footprint DFN8_8.2_7.3
pins: 1 NC, 2 OE, 3 GND, 4 CLK+, 5 CLK-, 6 VDD, 7 SDA, 8 SCL

## SP2526A-1EN-L
designator U?
footprint SOP8
pins: 1 ENA, 2 FLGA, 3 FLGB, 4 ENB, 5 OUTB, 6 GND, 7 VIN, 8 OUTA

## SPF_Caqesx2
designator SFP?
footprint SPF_Caqesx2
part A pins: A1 TX_GND (power), A2 TX Fault (in), A3 TX Dis (in), A4 SDA (io), A5 SCL (io), A6 MOD-ABS (io), A7 RS0 (in), A8 LOS (out), A9 RS1, A10 RX_GND (power), A11 RXGND (power), A12 RD- (out), A13 RD+ (out), A14 RX_GND (power), A15 VccR (power), A16 VccT (power), A17 TX_GND (power), A18 TD+ (in), A19 TD- (in), A20 TX_GND (power), A21, A22
part B pins: B1 TX_GND (power), B2 TX Fault (in), B3 TX Dis (in), B4 SDA (io), B5 SCL (io), B6 MOD-ABS (io), B7 RS0 (in), B8 LOS (out), B9 RS1, B10 RX_GND (power), B11 RXGND (power), B12 RD- (out), B13 RD+ (out), B14 RX_GND (power), B15 VccR (power), B16 VccT (power), B17 TX_GND (power), B18 TD+ (in), B19 TD- (in), B20 TX_GND (power), B21, B22
part C pins: P1, P2, P3, P4, P5, P6, P7, P8, P9, P10, P11, P12, P13, P14, P15, P16, P17, P18, P19, P20, P21, P22, P23, P24, P25, P26, P27, P28, P29

## SW123
designator SW?
footprint SW123 (Footprint not found)
footprint SW1-2-3 -B
pins: 1, 2, 3

## SW-1
designator SW?
SW
footprint SW-3X9
pins: 1, 2

## TE 1981584
designator J?, comment 1981584-1
USB Micro AB connector; Manufacturer: Tyco Electronics; DPN: *
footprint MicroUsb
pins: 1 V (power), 2 D- (io), 3 D+ (io), 4 ID, 5 G (power), S1, S2, S3, S4
text: USB Micro AB

## TPS54327
designator EU?, comment TPS54627
footprint SOP8_EP_127P4X5X1_5
pins: 1 EN, 2 VFB (hiz), 3 VREG5 (power), 4 SS, 5 GND (power), 6 SW (power), 7 VBST (power), 8 VIN (power), 9 PAD (power)

## TXS0108EPWR
designator U?
footprint TSSOP20_6.5_4.4
pins: 1 A1, 2 VCCA, 3 A2, 4 A3, 5 A4, 6 A5, 7 A6, 8 A7, 9 A8, 10 OE, 11 GND, 12 B8, 13 B7, 14 B6, 15 B5, 16 B4, 17 B3, 18 B2, 19 VCCB, 20 B1

## USB2514
designator U?
footprint QFN36
pins: 1 DN1 (oc), 2 DP1 (oc), 3 DN2 (oc), 4 DP2 (oc), 5 VDD33 (oc), 6 NC/DN3 (oc), 7 NC/DP3 (oc), 8 NC/DN4 (oc), 9 NC/DP4 (oc), 10 VDD33 (oc), 11 TEST (oc), 12 PRTPWR1/BC_EN1 (oc), 13 OCSn1 (oc), 14 CRFILT (oc), 15 VDD33 (oc), 16 PRTPWR2/BC_EN2 (oc), 17 OCSn2 (oc), 18 NC/NC/PRTPWR3/BC_EN3 (oc), 19 NC/OCSn3 (oc), 20 NC/PRTPWR4/BC_EN4 (oc), 21 NC/OCSn4 (oc), 22 SDA/SMBDATA/NON_REM1 (oc), 23 VDD33 (oc), 24 SCL/SMBCLK/CFG_SEL0 (oc), 25 HS_IND/CFG_SEL1 (oc), 26 RESET_N (oc), 27 VBUS_DET, 28 SUSP_IND/LOCAL_PWR/NON_REM0 (oc), 29 VDD33 (oc), 30 DM_UP, 31 DP_UP, 32 XTALOUT (oc), 33 XTALIN/CLKIN (oc), 34 PLLFILT (oc), 35 RBIAS (oc), 36 VDD33 (oc), 37 VSS_PAD (oc)

## XTAL
designator Y?, comment 32.768kHz
Crystal Oscillator; Published: 8-Jun-2000; Revision: July-2002: Re-released for DXP Platform.; Publisher: Altium Limited
footprint SM-49
simulation model XTAL (Spice Subcircuit)
simulation model DT-38 (Model Description)
pins: 1 OSC1, 2 OSC2